# Altium footprint library snes.PcbLib: 1 footprints
Each footprint in its own frame and in the unit in brackets; x right, y up, seen from the top. Pads: shape width x height; smd on the part's side, far side on the other; paste and mask are expansions set on the pad; w line width, h text height; cw(c..) or ccw(c..) is an arc to the next point about the centre after c.
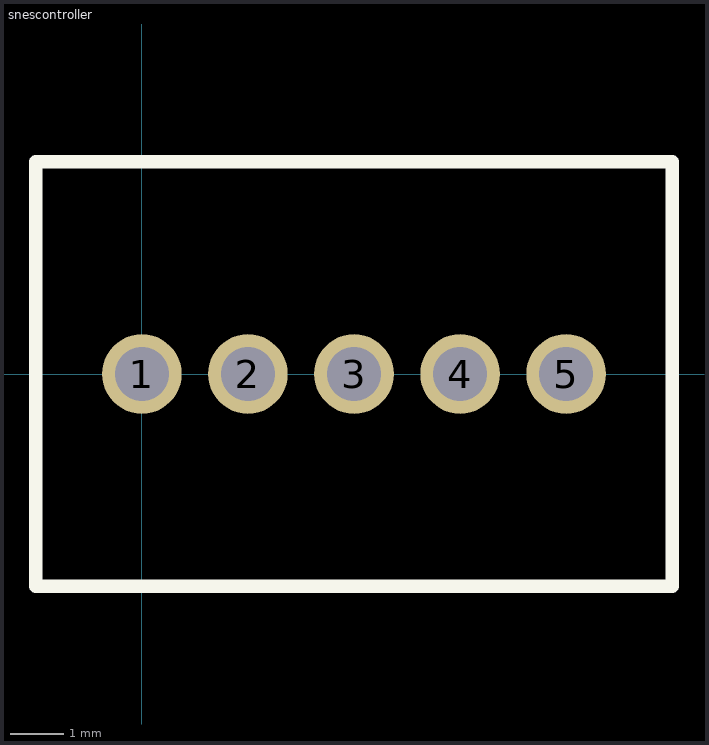
[diagram p0: the footprint, top view; thin cyan lines are the x and y axes]

## snescontroller [mm] "snes controller"
pads (5):
  round 1.5 hole 1.016: 1(0,0) 2(2,0) 3(4,0) 4(6,0) 5(8,0)
Top Overlay:
  lines w0.254: -2,-4 10,-4 10,4 -2,4 -2,-4